# Altium schematic symbol library Keystone_Electronics_Test_Points.SchLib: 1 symbol
Pins are listed as number, name and electrical type; pins without a type are passive.

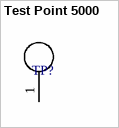
[diagram p0: symbol Test Point 5000]

## Test Point 5000
designator TP?  (value not drawn)
Circuit Board Hardware - PCB TEST POINT RED; Manufacturer Part Number: 5000; Manufacturer: Keystone Electronics; Outside Diameter: 2.54 mm; Mounting Hole Size: 1 mm; Plating: Silver; Supplier 1: Mouser; Supplier 2: Digi-Key; Type: Miniature; Length: 7.62 mm; Material: Nylon; Product: Test Points; Datasheet: http://www.mouser.com/ds/2/215/000-5004-741320.pdf; Pricing: 1=0.320, 10=0.299, 50=0.227, 100=0.216, 250=0.196, 500=0.185, 1000=0.154, 3000=0.148, 6000=0.134 (USD); Supplier Part Number 1: 534-5000; Supplier Part Number 2: 36-5000-ND
footprint Test_Point
pins: 1